# Altium integrated library ULN2803ADW.IntLib: 1 symbol
Pins are listed as number, name and electrical type; pins without a type are passive.

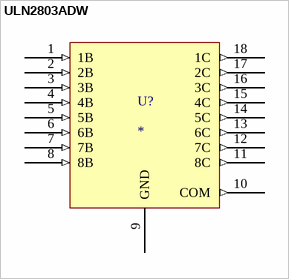
[diagram p0: symbol ULN2803ADW]

## ULN2803ADW
designator U?
50-V, 8-ch darlington array; MP: ULN2803ADW; MF: Texas Instruments; SnapEDA_Link: https://www.snapeda.com/parts/ULN2803ADW/Texas+Instruments/view-part/?ref=snap; Package: SOIC-18 Texas Instruments; Check_prices: https://www.snapeda.com/parts/ULN2803ADW/Texas+Instruments/view-part/?ref=eda; Purchase-URL: https://pricing.snapeda.com/search/part/ULN2803ADW/?ref=eda; Price: None; Value: *; Availability: In Stock
footprint SOIC127P1030X265-18N
pins: 1 1B (in), 2 2B (in), 3 3B (in), 4 4B (in), 5 5B (in), 6 6B (in), 7 7B (in), 8 8B (in), 9 GND, 10 COM (out), 11 8C (out), 12 7C (out), 13 6C (out), 14 5C (out), 15 4C (out), 16 3C (out), 17 2C (out), 18 1C (out)